# Altium schematic symbol library FPC-1.0FX-15PWCR-H20FPC-1.0FX-15PWCR-H20.SCHLIB: 1 symbol
Pins are listed as number, name and electrical type; pins without a type are passive.

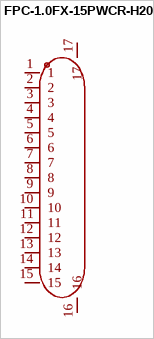
[diagram p0: symbol FPC-1.0FX-15PWCR-H20]

## FPC-1.0FX-15PWCR-H20
designator U??  (value not drawn)
Symbol: FPC-1.0FX-15PWCR-H20
pins: 1, 2, 3, 4, 5, 6, 7, 8, 9, 10, 11, 12, 13, 14, 15, 16, 17